# EAGLE library part TPS63802DLAR (library TexasInstruments)
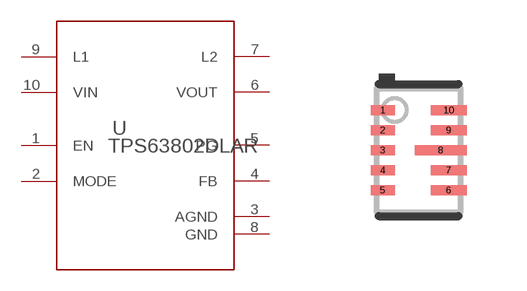
[diagram p11: symbol with the pads of DLA0010A; footprint DLA0010A]

Designator prefix U

## TPS63802DLARDLA0010A (COPYRIGHT: Copyright (C) 2023 Ultra Librarian. All rights reserved.; MANUFACTURER_PART_NUMBER: TPS63802DLAR; MFR_NAME: Texas Instruments; REFDES: RefDes; TYPE: TYPE)  [DLA0010A]
1  EN  in
2  MODE  in
3  AGND  pwr
4  FB  in
5  PG  oc
6  VOUT  pwr
7  L2  pas
8  GND  pwr
9  L1  pas
10  VIN  pwr

## Footprint DLA0010A (pad centres in mm)
smd 0.6 x 0.25: 1 -0.9,1; 2 -0.9,0.5; 3 -0.9,0; 4 -0.9,-0.5; 5 -0.9,-1
smd 0.9 x 0.25: 6 0.75,-1; 7 0.75,-0.5; 9 0.75,0.5; 10 0.75,1
smd 1.3 x 0.25: 8 0.55,0